# EAGLE library part STM8AF6226TDY (library project121)
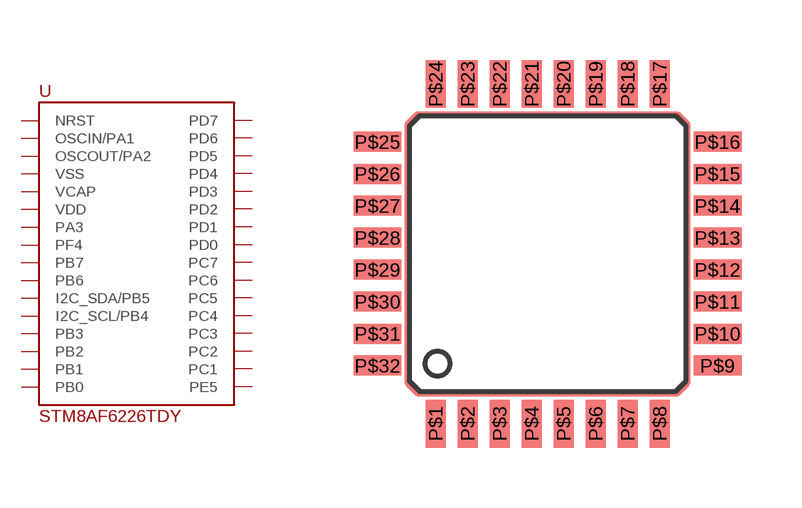
[diagram p0: symbol with the pads of STM8AF6226TDY; footprint STM8AF6226TDY]

Designator prefix U

## STM8AF6226TDY  [STM8AF6226TDY]
P$1  NRST
P$2  OSCIN/PA1
P$3  OSCOUT/PA2
P$4  VSS
P$5  VCAP
P$6  VDD
P$7  PA3
P$8  PF4
P$9  PB7
P$10  PB6
P$11  I2C_SDA/PB5
P$12  I2C_SCL/PB4
P$13  PB3
P$14  PB2
P$15  PB1
P$16  PB0
P$17  PE5
P$18  PC1
P$19  PC2
P$20  PC3
P$21  PC4
P$22  PC5
P$23  PC6
P$24  PC7
P$25  PD0
P$26  PD1
P$27  PD2
P$28  PD3
P$29  PD4
P$30  PD5
P$31  PD6
P$32  PD7

## Footprint STM8AF6226TDY (pad centres in mm)
smd 0.5 x 1.2: P$1 -2.29,-4.48; P$2 -1.49,-4.48; P$3 -0.69,-4.48; P$4 0.11,-4.48; P$5 0.91,-4.48; P$6 1.71,-4.48; P$7 2.51,-4.48; P$8 3.31,-4.48; P$17 3.31,4.02; P$18 2.51,4.02; P$19 1.71,4.02; P$20 0.91,4.02; P$21 0.11,4.02; P$22 -0.69,4.02; P$23 -1.49,4.02; P$24 -2.29,4.02
smd 1.2 x 0.5: P$9 4.76,-3.03; P$10 4.76,-2.23; P$11 4.76,-1.43; P$12 4.76,-0.63; P$13 4.76,0.17; P$14 4.76,0.97; P$15 4.76,1.77; P$16 4.76,2.57; P$25 -3.74,2.57; P$26 -3.74,1.77; P$27 -3.74,0.97; P$28 -3.74,0.17; P$29 -3.74,-0.63; P$30 -3.74,-1.43; P$31 -3.74,-2.23; P$32 -3.74,-3.03